# Altium schematic symbol library Si46xx.SchLib: 1 symbol
Pins are listed as number, name and electrical type; pins without a type are passive.

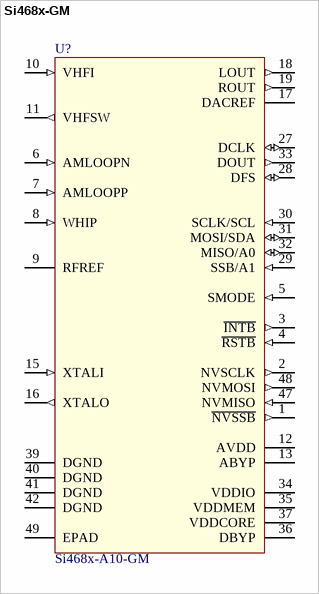
[diagram p0: symbol Si468x-GM]

## Si468x-GM
designator U?  value Si468x-A10-GM  (hidden comment: Si468x-GM)
BROADCAST AM/AMHD-FM/FMHD-DAB/DAB+ RADIO RECEIVER
footprint QFN-48-7X7 (QFN, 48-Leads, Body 7x7mm, Pitch 0.5mm, Thermal Pad 5.3x5.3mm, IPC Medium Density)
pins: 1 ~{NVSSB} (out) "SPI slave select for serial flash", 2 NVSCLK (out) "SPI clock for serial flash", 3 ~{INTB} (out), 4 ~{RSTB} (in), 5 SMODE (in), 6 AMLOOPN (in), 7 AMLOOPP (in), 8 WHIP (in), 9 RFREF (power), 10 VHFI (in) "VHF LNA input", 11 VHFSW (out) "VHF front-end switch; 0 → switch open; 1 → switch closed", 12 AVDD (power) "Analog supply voltage", 13 ABYP (power) "Analog bypass", 15 XTALI (in) "Crystal amp input", 16 XTALO (out) "Crystal amp output", 17 DACREF (power) "DAC reference supply voltage", 18 LOUT (out) "Left channel audio DAC output (powered from AVDD)", 19 ROUT (out) "Right channel audio DAC output (powered from AVDD)", 27 DCLK (io) "I2S clock for digital audio", 28 DFS (io) "I2S frame sync for digital audio", 29 SSB/A1 (in) "SPI slave select or I2C address A1", 30 SCLK/SCL (in) "SPI or I2C clock input", 31 MOSI/SDA (io) "SPI data input or I2C data I/O", 32 MISO/A0 (io) "SPI data output or I2C address A0", 33 DOUT (out) "I2S audio output", 34 VDDIO (power) "Interface supply voltage", 35 VDDMEM (power) "Memory supply voltage", 36 DBYP (power) "Digital bypass", 37 VDDCORE (power) "Digital core supply voltage", 39 DGND (power) "Digital ground", 40 DGND (power) "Digital ground", 41 DGND (power) "Digital ground", 42 DGND (power) "Digital ground", 47 NVMISO (in) "SPI master data input for serial flash", 48 NVMOSI (out) "SPI master data output for serial flash", 49 EPAD (power)